# EAGLE library part L4981BD (library ST Microelctronics_By_element14_Batch_1)
POWER FACTOR CORRECTOR
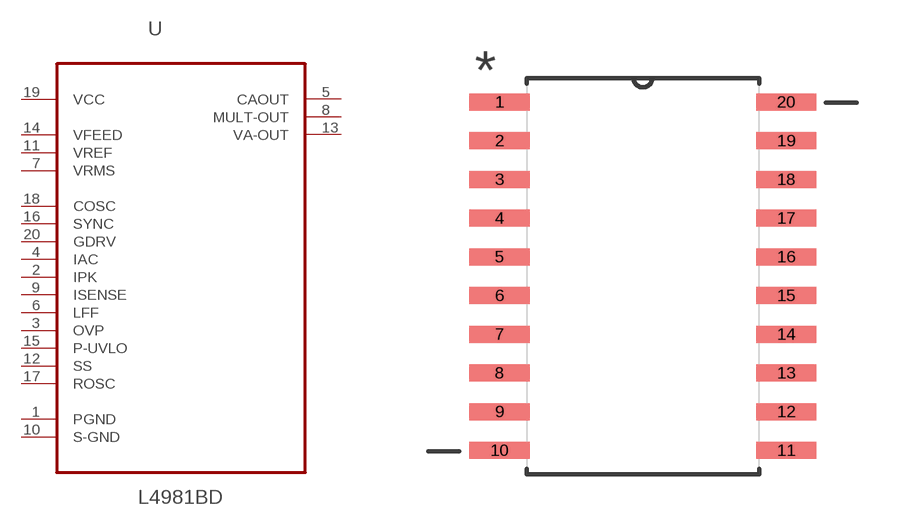
[diagram p40: symbol with the pads of SOIC127P1032X265-20N; footprint SOIC127P1032X265-20N]

Designator prefix U

## L4981BD (MPN: L4981BD; OC_FARNELL: 1094224; OC_NEWARK: 24M4229; PACKAGE: 20-TSSOP; SUPPLIER: STMICROELECTRONICS)  [SOIC127P1032X265-20N]
1  PGND  pas
2  IPK  in
3  OVP  in
4  IAC  in
5  CAOUT  out
6  LFF  in
7  VRMS  in
8  MULT-OUT  out
9  ISENSE  in
10  S-GND  pas
11  VREF  in
12  SS  in
13  VA-OUT  out
14  VFEED  in
15  P-UVLO  in
16  SYNC  in
17  ROSC  pas
18  COSC  pas
19  VCC  pwr
20  GDRV  in

## Footprint SOIC127P1032X265-20N (pad centres in mm)
smd 1.981 x 0.559: 1 -4.699,5.715; 2 -4.699,4.445; 3 -4.699,3.175; 4 -4.699,1.905; 5 -4.699,0.635; 6 -4.699,-0.635; 7 -4.699,-1.905; 8 -4.699,-3.175; 9 -4.699,-4.445; 10 -4.699,-5.715; 11 4.699,-5.715; 12 4.699,-4.445; 13 4.699,-3.175; 14 4.699,-1.905; 15 4.699,-0.635; 16 4.699,0.635; 17 4.699,1.905; 18 4.699,3.175; 19 4.699,4.445; 20 4.699,5.715